# Altium footprint library greenhousePcbLib.PcbLib: 30 footprints (part 2 of 2)
Each footprint in its own frame and in the unit in brackets; x right, y up, seen from the top. Pads: shape width x height; smd on the part's side, far side on the other; paste and mask are expansions set on the pad; w line width, h text height; cw(c..) or ccw(c..) is an arc to the next point about the centre after c.
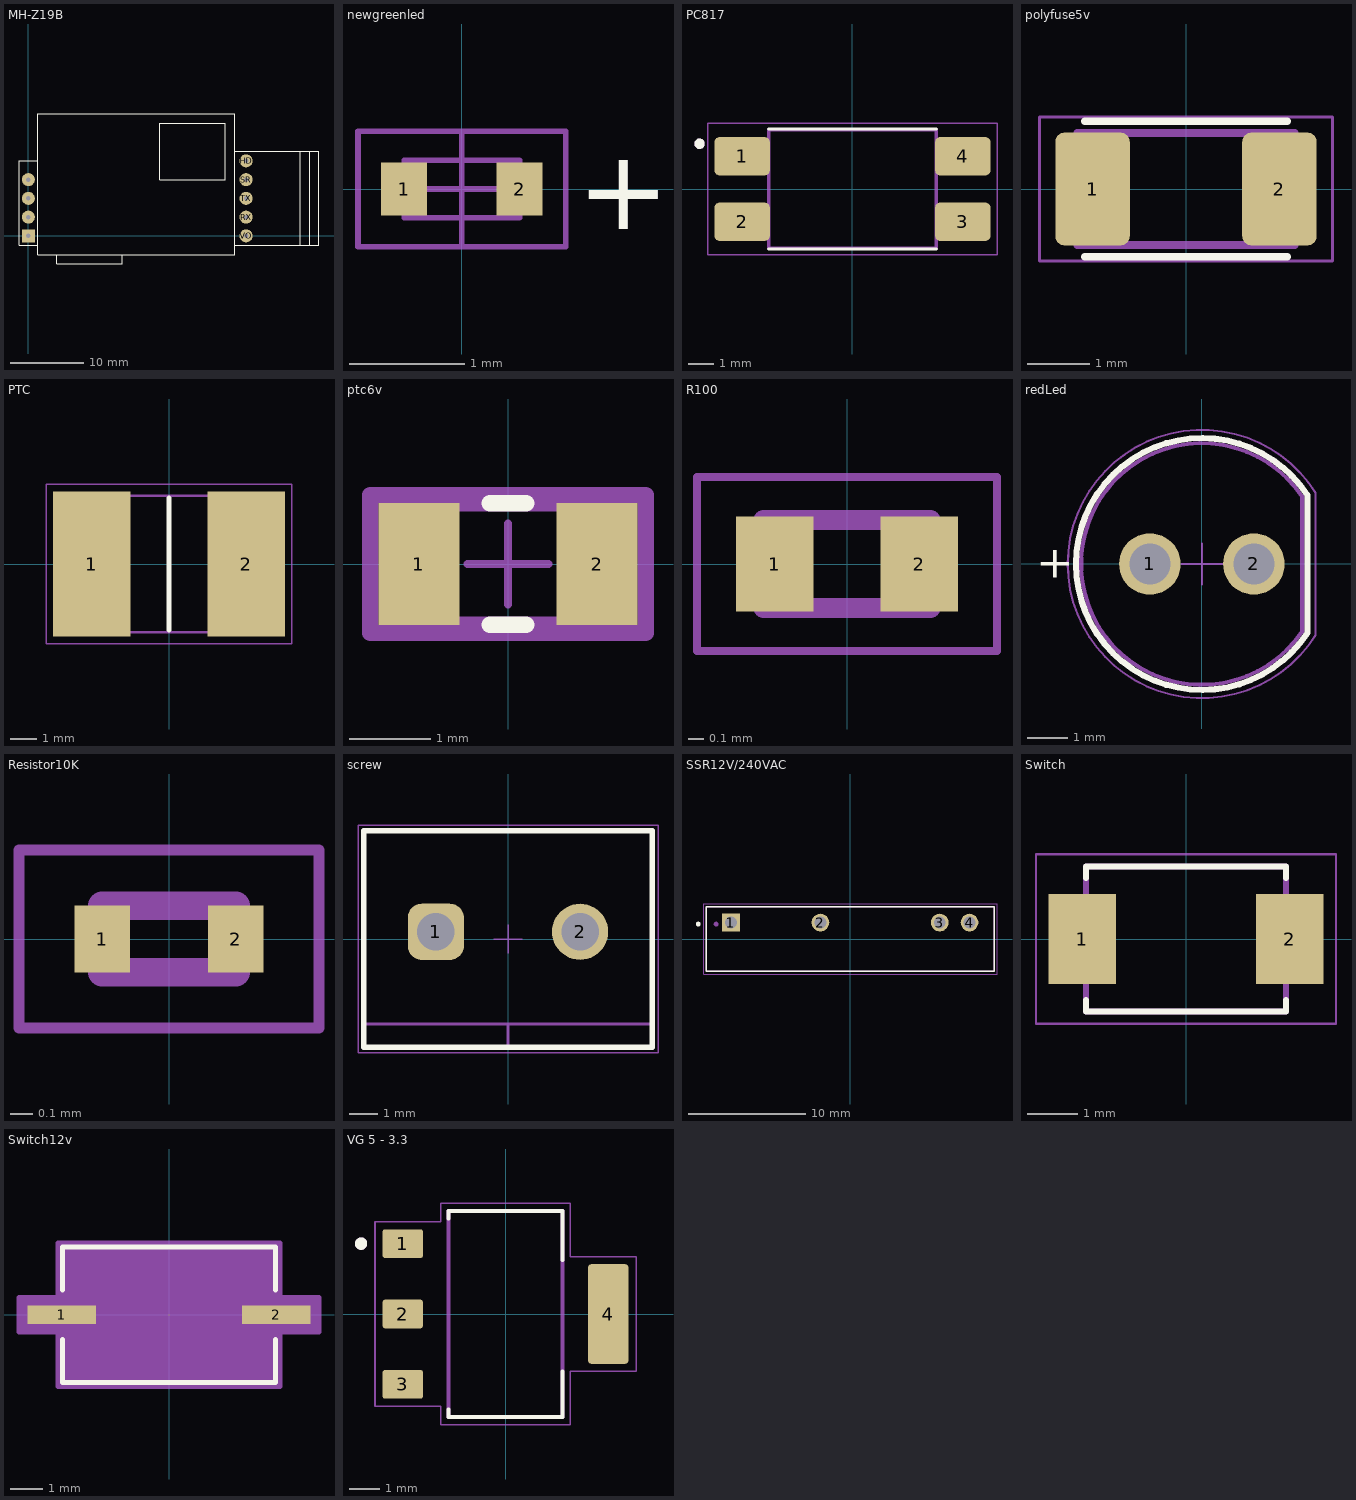
[diagram p1: the footprints below, top view; thin cyan lines are the x and y axes]

## MH-Z19B [mil]
pads (9):
  round 70 hole 23.62: AOT(0,200) GND(0,100) HD(1161,400) PWM(0,300) RX(1161,100) SR(1161,300) TX(1161,200) VO(1161,0)
  rect 70x70 / inner round 70 / far side rect 70x70 hole 23.62: VIN(0,0)
Top Overlay:
  lines w5: 50,-50 -50,-50 -50,400 50,400 ; 50,400 50,-100 150,-100 ; 50,400 50,650 1100,650 1100,450 ; 150,-100 500,-100 ; 150,-100 150,-150 500,-150 500,-100 ; 500,-100 1100,-100 1100,-50 ; 1100,-50 1100,450 ; 1100,-50 1450,-50 ; 1100,450 1450,450 ; 1450,-50 1450,450 ; 1450,-50 1500,-50 ; 1450,450 1500,450 ; 1500,-50 1550,-50 1550,450 1500,450 ; 1500,-50 1500,450 ; 700,300 1050,300 1050,600 700,600 700,300
3D body "step_temp.STEP": height 690.26, standoff -85.33, extent -50,-425 1232.02,252.17

## newgreenled [mm] "SMD Mono-color Chip LED Compact, body 1.00 x 0.50 mm"
height 0.25
pads (2):
  rect 0.4x0.46 smd: 1(-0.5,0) 2(0.5,0)
Top Overlay:
  text "+" at 1,-0.35 h0.7
Top Courtyard:
  lines w0.05: -0.9,-0.5 0.9,-0.5 0.9,0.5 -0.9,0.5 -0.9,-0.5
Top Designator:
  text ".Designator" at -2.499,-0.167 h0.5
Top Component Outline:
  lines w0.05: -0.5,-0.25 0.5,-0.25 0.5,0.25 -0.5,0.25 -0.5,-0.25
Top Component Center:
  lines w0.05: -0.5,0 0.5,0 ; 0,-0.5 0,0.5
3D body "150040xx73220.stp": height 0.25, standoff 0, extent -0.5,-0.25 0.5,0.25

## PC817 [mm]
height 4.2
pads (4):
  rrect25% 2.15x1.48 smd: 1(-4.28,1.27) 2(-4.28,-1.27) 3(4.28,-1.27) 4(4.28,1.27)
Top Overlay:
  circle w0.2: c-5.93,1.755 r0.1
  lines w0.127: -3.25,-2.33 3.25,-2.33 ; -3.25,2.33 3.25,2.33
Mechanical 13:
  circle w0.2: c-5.93,1.755 r0.1
  lines w0.127: -3.25,-2.3 -3.25,2.3 3.25,2.3 3.25,-2.3 -3.25,-2.3
Mechanical 15:
  lines w0.05: -5.605,-2.55 -5.605,2.55 5.605,2.55 5.605,-2.55 -5.605,-2.55
3D body "step_temp.STEP": height 4, standoff 0, extent -4.875,-2.29 4.875,2.29

## polyfuse5v [mm]
pads (2):
  rrect25% 1.2x1.82 smd: 1(-1.505,0) 2(1.505,0)
Top Overlay:
  lines w0.127: -1.63,-1.09 1.63,-1.09 ; -1.63,1.09 1.63,1.09
Mechanical 13:
  lines w0.127: -1.75,-0.9 1.75,-0.9 1.75,0.9 -1.75,0.9 -1.75,-0.9
Mechanical 15:
  lines w0.05: -2.36,-1.16 2.36,-1.16 2.36,1.16 -2.36,1.16 -2.36,-1.16
3D body "0ZCJ0100FF2E.STEP": height 0.86, standoff 0.01, extent -1.625,-0.825 1.625,0.825

## PTC [mm]
pads (2):
  rect 2.9x5.45 smd: 1(-2.9,0) 2(2.9,0)
Top Overlay:
  lines w0.2: 0,-2.46 0,2.46
Mechanical 13:
  lines w0.05: -4.6,-3 4.6,-3 4.6,3 -4.6,3 -4.6,-3
  lines w0.1: -3.678,-2.56 3.678,-2.56 3.678,2.56 -3.678,2.56 -3.678,-2.56
3D body "FUSE_2920L50016_LTF.step": height 1.52, standoff 0, extent -3.937,-2.667 3.937,2.667

## ptc6v [mm]
pads (2):
  rect 1x1.5 smd paste+0 mask+0: 1(-1.1,0) 2(1.1,0)
Top Overlay:
  lines w0.2: -0.225,-0.75 0.225,-0.75 ; -0.225,0.75 0.225,0.75
Top 3D Body:
  lines w0.2: -1.15,-0.75 -1.15,0.75 1.15,0.75 1.15,-0.75 -1.15,-0.75
Top Courtyard:
  lines w0.2: -1.7,-0.85 -1.7,0.85 1.7,0.85 1.7,-0.85 -1.7,-0.85
Top Assembly:
  lines w0.2: -1.7,-0.85 -1.7,0.85 1.7,0.85 1.7,-0.85 -1.7,-0.85
Top Component Center:
  lines w0.1: -0.5,0 0.5,0 ; 0,-0.5 0,0.5
3D body "Fuse_Bel_Fuse_0ZCK0075FF2E_eec.STEP": height 0.25, standoff 0, extent -1.7,-0.85 1.7,0.85

## R100 [mm]
pads (2):
  rect 0.49x0.6 smd: 1(-0.457,0) 2(0.457,0)
Mechanical 13:
  lines w0.127: -0.53,-0.28 -0.53,0.28 0.53,0.28 0.53,-0.28 -0.53,-0.28
Mechanical 15:
  lines w0.05: -0.95,-0.55 -0.95,0.55 0.95,0.55 0.95,-0.55 -0.95,-0.55
3D body "step_temp.STEP": height 0.35, standoff 0, extent -0.5,-0.25 0.5,0.25

## redLed [mm] "THT Mono-color Round Color LED, 2-leads"
height 8.7
pads (2):
  round 1.5 hole 1: 1(-1.27,0) 2(1.27,0)
Top Overlay:
  lines w0.15: 2.575,-1.681 cw(c0,0) 2.575,1.681 2.575,-1.681
  text "+" at -4.05,-0.33 h0.8
Top Courtyard:
  lines w0.05: -0.5,0 0.5,0 ; 0,-0.5 0,0.5 ; 2.775,-1.74 cw(c0,0) 2.775,1.74 2.775,-1.74
Top Designator:
  text ".Designator" at -7.498,-0.5 h1.5
Top Component Outline:
  lines w0.1: 2.449,-1.644 cw(c0,0) 2.449,1.645 ; 2.45,-1.645 2.45,1.645
3D body "STEP-WL-TMRC-5mm-wos-rev1.stp": height 9.2, standoff -25.9, extent -2.95,-2.949 2.45,2.95

## Resistor10K [mm]
pads (2):
  rect 0.25x0.3 smd: 1(-0.3,0) 2(0.3,0)
Mechanical 13:
  lines w0.127: -0.3,-0.15 0.3,-0.15 0.3,0.15 -0.3,0.15 -0.3,-0.15
Mechanical 15:
  lines w0.05: -0.675,-0.4 0.675,-0.4 0.675,0.4 -0.675,0.4 -0.675,-0.4
3D body "step_temp.STEP": height 0.23, standoff 0, extent -0.3,-0.15 0.3,0.15

## screw [mm] "Horizontal Cable Entry with Pressure Clamp, pitch 5mm, 02p"
height 11.5
pads (2):
  rrect50% 1.95x1.95 hole 1.3: 1(-2.5,0.25)
  round 1.95 hole 1.3: 2(2.5,0.25)
Top Overlay:
  lines w0.2: -5,-3.75 -5,3.75 5,3.75 5,-3.75 -5,-3.75
Top 3D Body:
  lines w0.1: -5,-2.95 5,-2.95 ; 0,-3.75 0,-2.95 ; -5,-3.75 -5,3.75 5,3.75 5,-3.75 -5,-3.75
Top Courtyard:
  lines w0.05: -5.2,-3.95 -5.2,3.95 5.2,3.95 5.2,-3.95 -5.2,-3.95
Top Designator:
  text ".Designator" at -7.498,-0.5 h1.5
Top Component Outline:
  lines w0.1: -5,-2.95 5,-2.95 ; 0,-3.75 0,-2.95 ; -5,-3.75 5,-3.75 5,3.75 -5,3.75 -5,-3.75
Top Component Center:
  lines w0.05: -0.5,0 0.5,0 ; 0,-0.5 0,0.5
3D body "691137710002.stp": height 11.6, standoff -3.5, extent -5,-3.75 5,3.75

## SSR12V/240VAC [mm]
pads (4):
  rect 1.508x1.508 / inner round 1.508 / far side rect 1.508x1.508 hole 1: 1(-10.16,1.4)
  round 1.508 hole 1: 2(-2.54,1.4) 3(7.62,1.4) 4(10.16,1.4)
Top Overlay:
  circle w0.2: c-12.954,1.27 r0.1
  lines w0.127: -12.25,-2.75 -12.25,2.75 12.25,2.75 12.25,-2.75 -12.25,-2.75
Mechanical 13:
  circle w0.2: c-11.43,1.27 r0.1
  lines w0.127: -12.25,-2.75 -12.25,2.75 12.25,2.75 12.25,-2.75 -12.25,-2.75
Mechanical 15:
  lines w0.05: -12.5,-3 12.5,-3 12.5,3 -12.5,3 -12.5,-3
3D body "step_temp.STEP": height 20.5, standoff -3.9, extent -12.25,-2.747 12.25,2.753

## Switch [mm]
height 2
pads (2):
  rect 1.35x1.8 smd: 1(-2.075,0) 2(2.075,0)
Top Overlay:
  lines w0.127: -2,-1.22 -2,-1.45 2,-1.45 2,-1.22 ; -2,1.22 -2,1.45 2,1.45 2,1.22
Mechanical 13:
  lines w0.127: -2,-1.45 -2,1.45 2,1.45 2,-1.45 -2,-1.45
Mechanical 15:
  lines w0.05: -3,-1.7 3,-1.7 3,1.7 -3,1.7 -3,-1.7
3D body "step_temp.STEP": height 2, standoff 0, extent -2.4,-1.45 2.4,1.45

## Switch12v [mil]
pads (2):
  rect 83x22 smd paste+0 mask+0: 1(-129.95,0) 2(129.95,0)
Top Overlay:
  lines w6: -129,-30 -129,-82 129,-82 129,-30 ; -129,30 -129,82 129,82 129,30
Mechanical 13:
  lines w0: -12,77 ccw(c0,77) 12,77
  lines w1: -124,-77 -124,77 124,77 124,-77 -124,-77
Mechanical 15:
  region: -134,-21 -181.45,-21 -181.45,21 -134,21 -134,87 134,87 134,21 181.45,21 181.45,-21 134,-21 134,-87 -134,-87
  lines w6: -181.45,-21 -134,-21 -134,-87 134,-87 134,-21 181.45,-21 181.45,21 134,21 134,87 -134,87 -134,21 -181.45,21 -181.45,-21
3D body "SW2_PTS636SM25FSMTRLFS_CNK.step": height 32.09, standoff 0, extent -159.45,-77.01 159.45,77.01

## VG 5 - 3.3 [mm]
height 1.8
pads (4):
  rrect15% 1.31x0.93 smd: 1(-3.345,2.29) 2(-3.345,0) 3(-3.345,-2.29)
  rrect15% 1.31x3.24 smd: 4(3.345,0)
Top Overlay:
  circle w0.2: c-4.703,2.29 r0.1
  lines w0.127: -1.86,-3.11 -1.86,-3.36 1.86,-3.36 1.86,-1.87 ; -1.86,3.1 -1.86,3.36 1.86,3.36 1.86,1.76
Mechanical 13:
  circle w0.2: c-4.703,2.29 r0.1
  lines w0.127: -1.86,-3.36 1.86,-3.36 1.86,3.36 -1.86,3.36 -1.86,-3.36
Mechanical 15:
  lines w0.05: -4.25,-3.01 -4.25,3.01 -2.11,3.01 -2.11,3.61 2.11,3.61 2.11,1.87 4.25,1.87 4.25,-1.87 2.11,-1.87 2.11,-3.61 -2.11,-3.61 -2.11,-3.01 -4.25,-3.01
3D body "step_temp.STEP": height 1.8, standoff 0, extent -3.626,-3.251 3.372,3.251